# EAGLE library part NAU7802 (library pimoroni-ics)
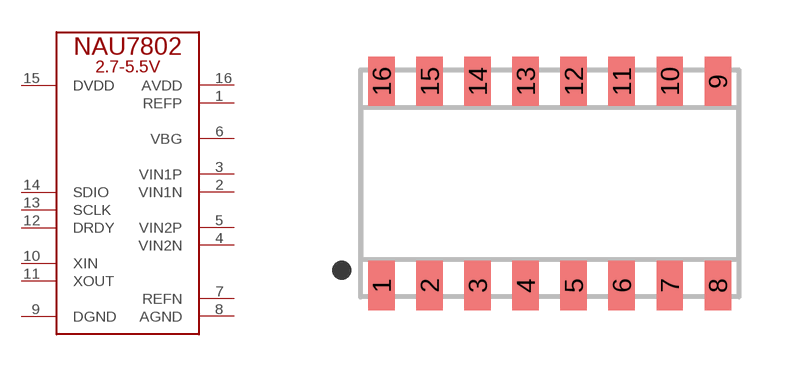
[diagram p106: symbol with the pads of SOP-16-1.27MM; footprint SOP-16-1.27MM]

Designator prefix U

## NAU7802  [SOP-16-1.27MM]
1  REFP
2  VIN1N
3  VIN1P
4  VIN2N
5  VIN2P
6  VBG
7  REFN
8  AGND
9  DGND
10  XIN
11  XOUT
12  DRDY
13  SCLK
14  SDIO
15  DVDD
16  AVDD

## Footprint SOP-16-1.27MM (pad centres in mm)
smd 0.7 x 1.3: 1 -4.445,-2.7; 2 -3.175,-2.7; 3 -1.905,-2.7; 4 -0.635,-2.7; 5 0.635,-2.7; 6 1.905,-2.7; 7 3.175,-2.7; 8 4.445,-2.7; 9 4.445,2.7; 10 3.175,2.7; 11 1.905,2.7; 12 0.635,2.7; 13 -0.635,2.7; 14 -1.905,2.7; 15 -3.175,2.7; 16 -4.445,2.7